# EAGLE library part B7B-ZR_(LF)(SN) (library B7B-ZR)
Connector,Multipole,PCB use,B7B-ZR (LF)( JST ZH Series, 1.5mm Pitch 7 Way 1 Row Straight PCB Header, Solder Termination, 1A Source: Datasheet <http://docs-emea.rs-online.com/webdocs/1147/0900766b81147f94.pdf>
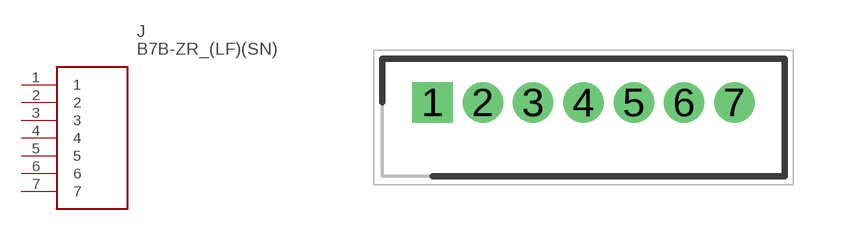
[diagram p0: symbol with the pads of SHDR7W50P0X150_1X7_1200X350X45; footprint SHDR7W50P0X150_1X7_1200X350X45]

Designator prefix J

## B7B-ZR_(LF)(SN) (Description: Connector,Multipole,PCB use,B7B-ZR (LF)( JST ZH Series, 1.5mm Pitch 7 Way 1 Row Straight PCB Header, Solder Termination, 1A; Height: 4.5mm; Manufacturer_Name: JST (JAPAN SOLDERLESS TERMINALS); Manufacturer_Part_Number: B7B-ZR (LF)(SN); RS_Part_Number: 7620828; RS_Price-Stock: https://uk.rs-online.com/web/p/products/7620828)  [SHDR7W50P0X150_1X7_1200X350X45]
1  1
2  2
3  3
4  4
5  5
6  6
7  7

## Footprint SHDR7W50P0X150_1X7_1200X350X45 (pad centres in mm)
B7B-ZR
drill 0.7 pad 1.1 square: 1 0,0
drill 0.7 pad 1.1: 2 1.5,0; 3 3,0; 4 4.5,0; 5 6,0; 6 7.5,0; 7 9,0